# EAGLE library part WE-D-SUB_THT_TH_216611003 (library Wurth_Signal & Communications_WE-D-SUB)
WE-D-SUB Filter Solder Pin Straight Characteristics Standard type filtered with 1000 pF High attenuation: max. ≥ 40 dB @ 180 MHz Choice of UNC 4/40 or through hole Rated voltage: 100 VDC Rated current @ 20 ºC: 5 A Withstand voltage: 250 VRMS Insulation resistance: min. 1000 MΩ Operating temperature: –55 ºC to +125 ºC Applications Filtering of interfaces External connection to -printer -sensor -display Device and Package Name Note: TH means Size Through Hole <https://katalog.we-online.de/media/images/v2/o14707v209%20Family_D-SUB-Filter_mit_geradem_Loetstift.jpg> Details see: https://katalog.we-online.de/en/pbs/D-SUB-FILTER-STRAIGHT Updated by Ella Wu 2019-09-10 2019(C) Wurth Elektronik
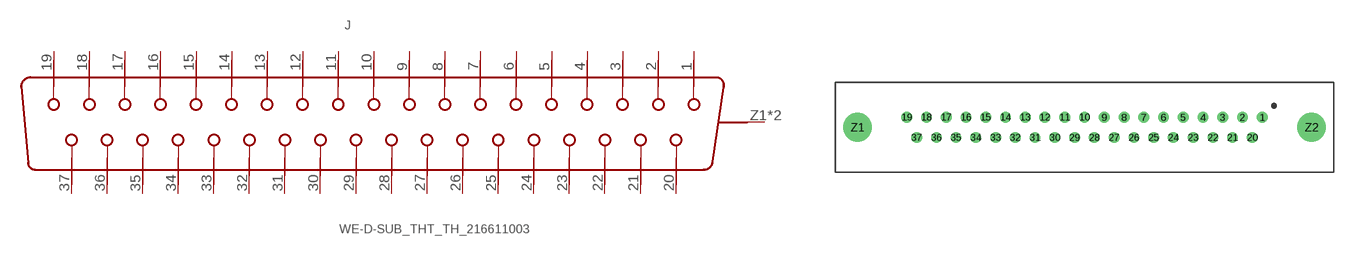
[diagram p21: symbol with the pads of WE-D-SUB_THT_TH_216611003; footprint WE-D-SUB_THT_TH_216611003]

Designator prefix J

## WE-D-SUB_THT_TH_216611003 (DATASHEET-URL: https://katalog.we-online.de/pbs/datasheet/216611003.pdf; MOUNT: THT; PART-NUMBER: 216611003; POLES: 37; TYPE: Female)  [WE-D-SUB_THT_TH_216611003]
1  19  pas
2  18  pas
3  17  pas
4  16  pas
5  15  pas
6  14  pas
7  13  pas
8  12  pas
9  11  pas
10  10  pas
11  9  pas
12  8  pas
13  7  pas
14  6  pas
15  5  pas
16  4  pas
17  3  pas
18  2  pas
19  1  pas
20  37  pas
21  36  pas
22  35  pas
23  34  pas
24  33  pas
25  32  pas
26  31  pas
27  30  pas
28  29  pas
29  28  pas
30  27  pas
31  26  pas
32  25  pas
33  24  pas
34  23  pas
35  22  pas
36  21  pas
37  20  pas
Z1  GND  pwr
Z2  GND  pwr

## Footprint WE-D-SUB_THT_TH_216611003 (pad centres in mm)
WE-D-SUB Filter Solder Pin Straight 37 Poles , Female TH means Size Through Hole
drill 1: 1 24.84,1.42; 2 22.1,1.42; 3 19.33,1.42; 4 16.56,1.42; 5 13.82,1.42; 6 11.05,1.42; 7 8.28,1.42; 8 5.54,1.42; 9 2.77,1.42; 10 0,1.42; 11 -2.77,1.42; 12 -5.54,1.42; 13 -8.28,1.42; 14 -11.05,1.42; 15 -13.82,1.42; 16 -16.56,1.42; 17 -19.33,1.42; 18 -22.1,1.42; 19 -24.84,1.42; 20 23.47,-1.42; 21 20.7,-1.42; 22 17.96,-1.42; 23 15.19,-1.42; 24 12.42,-1.42; 25 9.68,-1.42; 26 6.91,-1.42; 27 4.14,-1.42; 28 1.38,-1.42; 29 -1.38,-1.42; 30 -4.14,-1.42; 31 -6.91,-1.42; 32 -9.68,-1.42; 33 -12.42,-1.42; 34 -15.19,-1.42; 35 -17.96,-1.42; 36 -20.7,-1.42; 37 -23.47,-1.42
drill 3: Z1 -31.75,0; Z2 31.75,0